# Altium schematic symbol library SCH_IntegratedCircuit.SchLib: 10 symbols
Pins are listed as number, name and electrical type; pins without a type are passive.

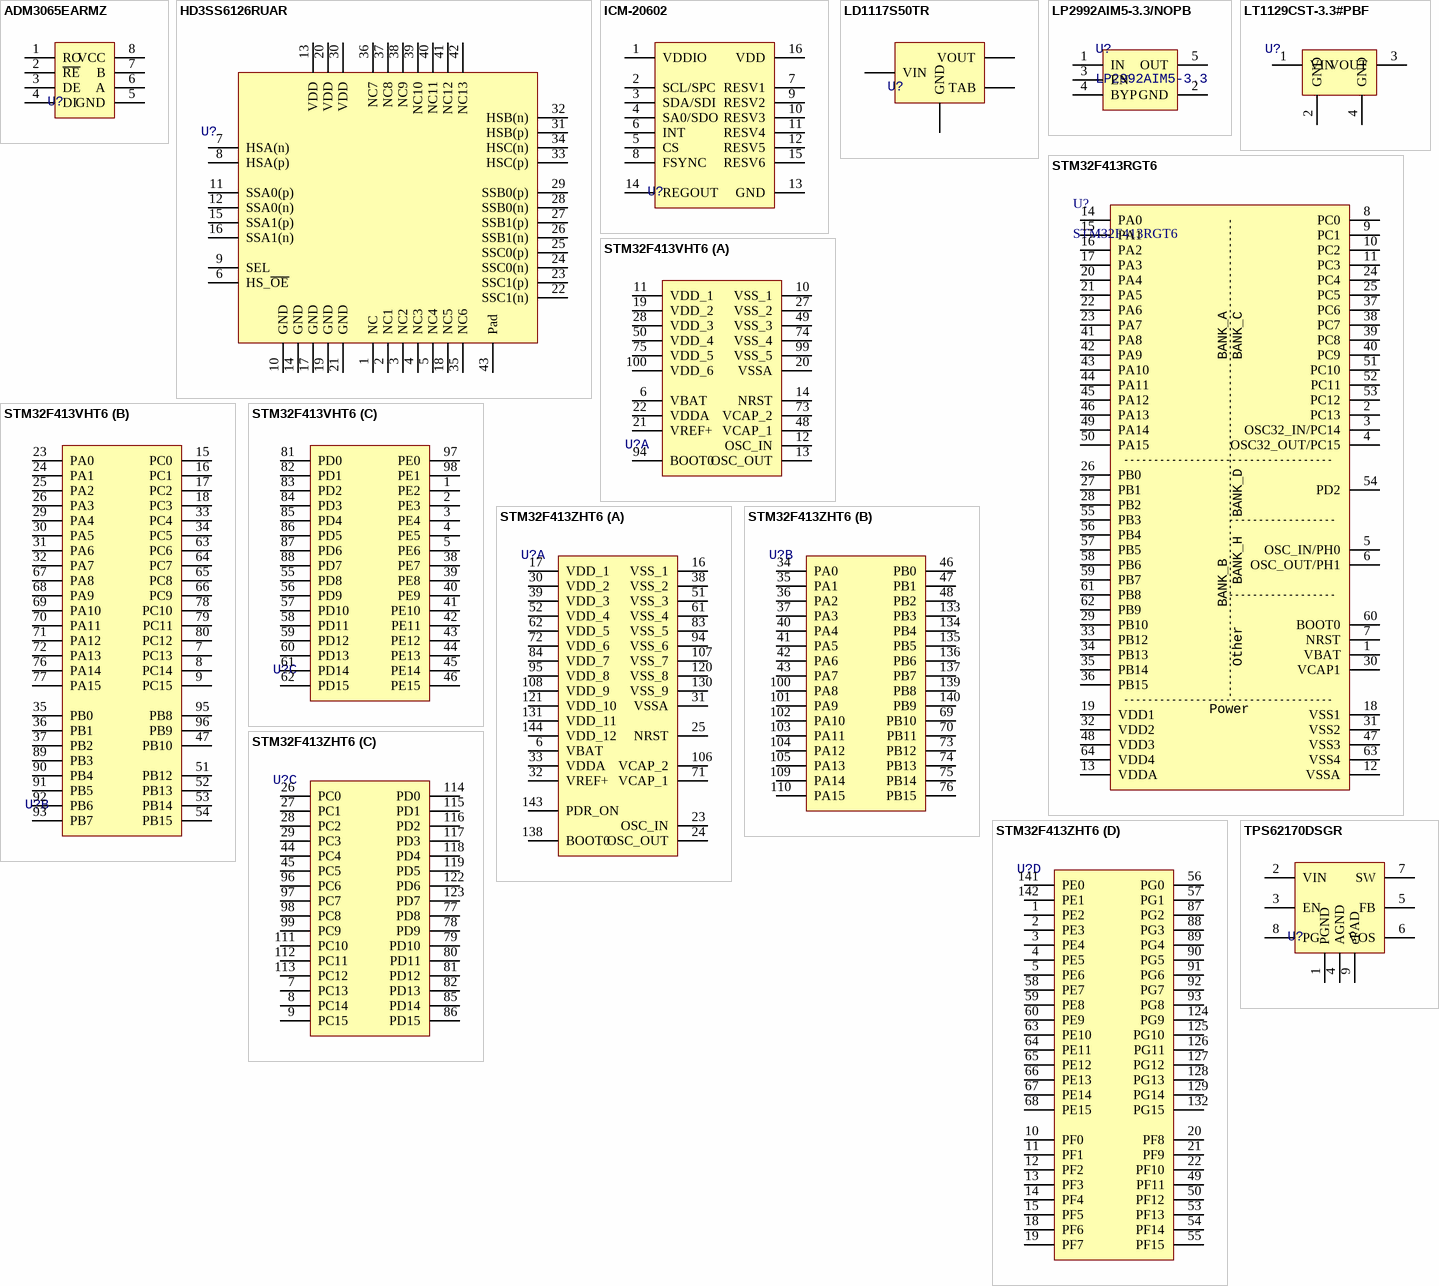
[diagram p0: symbols ADM3065EARMZ to TPS62170DSGR]

## ADM3065EARMZ
designator U?, comment ADM3065E  (value not drawn)
IC TXRX 1/1 RS485 50MBPS 8MSOP; Manufacturer: Analog Devices Inc.; Manufacturer Part Number: ADM3065EARMZ; 梱包形態: チューブ; 部品状況: 有効; タイプ: トランシーバ; デュプレックス: ハーフ; 電圧 - 供給: 3 V～5.5 V; 動作温度: -40°C～85°C; 実装タイプ: 面実装; パッケージ/ケース: 8-TSSOP、8-MSOP（0.118インチ、3.00mm幅）; サプライヤデバイスパッケージ: 8-MSOP; Supplier 1: Digi-Key; RoHS: RoHS Compliant; Category: 集積回路（IC）; Stock 1: 62; Pricing 1: 1=422, 50=358.32, 100=310.54, 500=264.36, 1000=222.956, 2500=211.808 (JPY); プロトコル: RS485; ドライバ/レシーバ数: 1/1; データレート: 50Mbps; ComponentLink1URL: http://www.analog.com/media/en/technical-documentation/data-sheets/ADM3065E.pdf; ComponentLink1Description: http://www.analog.com/media/en/technical-documentation/data-sheets/ADM3065E.pdf; Supplier Part Number 1: ADM3065EARMZ-ND
footprint MSOP_P0.65_8
pins: 1 RO, 2 ~{RE}, 3 DE, 4 DI, 5 GND, 6 A, 7 B, 8 VCC

## HD3SS6126RUAR
designator U?  (value not drawn)
IC MUX 2:1 8 OHM 42WQFN; Manufacturer 1: Texas Instruments; Manufacturer Part Number 1: HD3SS6126RUAR; Operating Supply Current: 2.4mA; Operating Supply Voltage: 3.3V; Max Supply Voltage: 3.6V; Min Supply Voltage: 3V; Logic Function: Demultiplexer,Multiplexer; On-State Resistance: 8R; Turn-On Delay Time: 250ns; Bandwidth: 10GHz; Data Rate: 10Gbps; Number of Ports: 3; Supply Type: Single; USB Standard: USB 2.0; Supplier 1: Digi-Key; Supplier Part Number 1: 296-37215-6-ND; Description 1: IC MUX 2:1 8 OHM 42WQFN; Stock 1: 17631; Pricing 1: 1=3.19, 10=2.868, 100=2.3499, 500=2.00046, 1000=1.68714 (USD); Mount: Surface Mount; Number of Pins: 42; Weight: 0.001933oz; Min Operating Temperature: 0°C; Max Operating Temperature: 70°C; Package Quantity: 3000; Packaging: Tape and Reel; Turn-Off Delay Time: 250ns; Number of Channels: 3; Radiation Hardening: No; REACH SVHC: No SVHC; Lead Free: Lead Free
pins: 1 NC, 2 NC1, 3 NC2, 4 NC3, 5 NC4, 6 HS_~{OE}, 7 HSA(n), 8 HSA(p), 9 SEL, 10 GND, 11 SSA0(p), 12 SSA0(n), 13 VDD, 14 GND, 15 SSA1(p), 16 SSA1(n), 17 GND, 18 NC5, 19 GND, 20 VDD, 21 GND, 22 SSC1(n), 23 SSC1(p), 24 SSC0(n), 25 SSC0(p), 26 SSB1(n), 27 SSB1(p), 28 SSB0(n), 29 SSB0(p), 30 VDD, 31 HSB(p), 32 HSB(n), 33 HSC(p), 34 HSC(n), 35 NC6, 36 NC7, 37 NC8, 38 NC9, 39 NC10, 40 NC11, 41 NC12, 42 NC13, 43 Pad

## ICM-20602
designator U?  (value not drawn)
IMU ACCEL/GYRO/TEMP I2C/SPI LGA; Manufacturer: TDK InvenSense; 部品状況: 有効; センサタイプ: 加加速度計、ジャイロスコープ、温度、6軸; 出力タイプ: I²C、SPI; 動作温度: -40°C～85°C（TA）; Supplier 1: Digi-Key; Manufacturer Part Number: ICM-20602; RoHS: RoHS Compliant; Category: センサ、トランスデューサ; Stock 1: 4770; Pricing 1: 1=688, 5=607.8, 10=536.8, 25=435.52, 50=384.9, 100=374.77, 500=313.99, 1000=293.731 (JPY); ComponentLink1URL: https://www.invensense.com/wp-content/uploads/2015/12/ICM-20602-Product-Brief-v1.0.pdf; ComponentLink1Description: https://www.invensense.com/wp-content/uploads/2015/12/ICM-20602-Product-Brief-v1.0.pdf; Supplier Part Number 1: 1428-1060-1-ND
footprint LGA_P0.5_16
pins: 1 VDDIO, 2 SCL/SPC, 3 SDA/SDI, 4 SA0/SDO, 5 CS, 6 INT, 7 RESV1, 8 FSYNC, 9 RESV2, 10 RESV3, 11 RESV4, 12 RESV5, 13 GND, 14 REGOUT, 15 RESV6, 16 VDD

## LD1117S50TR
designator U?  (value not drawn)
IC REG LINEAR 5V 800MA SOT223; Manufacturer: STMicroelectronics; 梱包形態: カット テープ（CT）; 部品状況: 有効; 出力構成: ポジティブ; 出力タイプ: 固定; 電圧 - 入力（最大）: 15V; 電圧ドロップアウト（最大）: 1.2V @ 800mA; PSRR: 75dB（120Hz）; 保護機能: 過電流、過温度; 動作温度: 0°C～125°C; 実装タイプ: 面実装; パッケージ/ケース: TO-261-4、TO-261AA; サプライヤデバイスパッケージ: SOT-223; Supplier 1: Digi-Key; Manufacturer Part Number: LD1117S50TR; RoHS: RoHS Compliant; Category: 集積回路（IC）; Stock 1: 174; Pricing 1: 1=61, 10=49.5, 100=33.73, 500=25.29, 1000=18.968 (JPY); 電圧 - 出力（最小/固定）: 5V; 電圧 - 出力（最大）: -; 電流 - 出力: 800mA; 制御機能: -; ComponentLink1URL: http://www.st.com/content/ccc/resource/technical/document/datasheet/99/3b/7d/91/91/51/4b/be/CD00000544.pdf/files/CD00000544.pdf/jcr:content/translations/en.CD00000544.pdf; ComponentLink1Description: http://www.st.com/content/ccc/resource/technical/document/datasheet/99/3b/7d/91/91/51/4b/be/CD00000544.pdf/files/CD00000544.pdf/jcr:content/translations/en.CD00000544.pdf; Supplier Part Number 1: 497-6447-1-ND
footprint SOT223-3
pins: 1 GND, 2 VOUT, 3 VIN, 4 TAB

## LP2992AIM5-3.3/NOPB
designator U?, comment LP2992AIM5-3.3
TEXAS INSTRUMENTS   LP2992AIM5-3.3/NOPB   IC, V REG, LINEAR, 3.3V, SMD, FULL REEL; Number of Outputs: 1; Min Input Voltage: 2.2V; Output Current: 250mA; Max Input Voltage: 16V; Dropout Voltage: 450mV; Min Supply Voltage: 4.3V; Polarity: Positive; Quiescent Current: 65uA; Accuracy: 3.5%; Current Rating: 250A; Supplier 1: Digi-Key; Manufacturer: Texas Instruments; Manufacturer Part Number: LP2992AIM5-3.3/NOPB; Stock 1: 62607; Pricing 1: 1=1.14, 10=1.015, 100=0.7912, 500=0.65364 (USD); Mount: Surface Mount; Case/Package: SOT-23; Number of Pins: 5; Contact Plating: Tin; Min Operating Temperature: -40°C; Max Operating Temperature: 125°C; Output Voltage: 3.3V; Packaging: Tape and Reel; Nominal Output Voltage: 3.3V; Max Output Current: 250mA; Max Supply Voltage: 16V; Termination: SMD/SMT; Output Voltage Accuracy: 3.5%; Package Quantity: 1000; Max Output Voltage: 3.3V; Length: 2.92mm; Height: 1.02mm; Width: 1.6mm; Radiation Hardening: No; REACH SVHC: No SVHC; Lead Free: Lead Free; ComponentLink1URL: https://datasheet.ciiva.com/46383/1887480-46383383.pdf; ComponentLink1Description: https://datasheet.ciiva.com/46383/1887480-46383383.pdf; ComponentLink2URL: https://datasheet.ciiva.com/25626/0900766b810fa74b-25626761.pdf; ComponentLink2Description: https://datasheet.ciiva.com/25626/0900766b810fa74b-25626761.pdf; ComponentLink3URL: https://datasheet.ciiva.com/6596/lp2992-6596796.pdf; ComponentLink3Description: https://datasheet.ciiva.com/6596/lp2992-6596796.pdf; ComponentLink4URL: https://datasheet.ciiva.com/6596/lp2992-6596798.pdf; ComponentLink4Description: https://datasheet.ciiva.com/6596/lp2992-6596798.pdf; ComponentLink5URL: https://datasheet.ciiva.com/3223/lp2992-3223902.pdf; ComponentLink5Description: https://datasheet.ciiva.com/3223/lp2992-3223902.pdf; ComponentLink6URL: https://datasheet.ciiva.com/14279/lp2992-14279583.pdf; ComponentLink6Description: https://datasheet.ciiva.com/14279/lp2992-14279583.pdf; ComponentLink7URL: https://datasheet.ciiva.com/25980/lp2992-25980087.pdf; ComponentLink7Description: https://datasheet.ciiva.com/25980/lp2992-25980087.pdf; ComponentLink8URL: https://datasheet.ciiva.com/15111/getdatasheetpartid-55165-15111194.pdf; ComponentLink8Description: https://datasheet.ciiva.com/15111/getdatasheetpartid-55165-15111194.pdf; ComponentLink9URL: https://datasheet.ciiva.com/27055/1995450-27055931.pdf; ComponentLink9Description: https://datasheet.ciiva.com/27055/1995450-27055931.pdf; Supplier Part Number 1: LP2992AIM5-3.3/NOPBDKR-ND
footprint SOP5 (TSOP, 5-Leads, Body 2.90x1.60mm, Pitch 0.95mm, IPC Medium Density)
pins: 1 IN, 2 GND, 3 EN, 4 BYP, 5 OUT

## LT1129CST-3.3#PBF
designator U?  (value not drawn)
IC REG LDO 3.3V 0.7A SOT223; Manufacturer: Analog Devices / Linear Technology; Output Current: 700mA; Dropout Voltage: 450mV; Number of Outputs: 1; Max Input Voltage: 30V; Min Input Voltage: 4.15V; Polarity: Positive; Quiescent Current: 50uA; Power Supply Rejection Ratio (PSRR): 64dB; Supplier 1: Digi-Key; Manufacturer Part Number: LT1129CST-3.3#PBF; Stock 1: 1447; Pricing 1: 1=4.61, 25=3.0632, 100=2.397 (USD); Case/Package: SOT-223; Number of Pins: 3; Min Operating Temperature: 0°C; Max Operating Temperature: 125°C; Package Quantity: 78; Packaging: Rail/Tube; Max Output Current: 700mA; Nominal Output Voltage: 3.3V; Output Voltage: 3.3V; Number of Regulators: 1; Operating Supply Current: 50uA; Length: 6.71mm; Height: 1.7mm; Width: 3.71mm; Radiation Hardening: No; REACH SVHC: No SVHC; Lead Free: Exempt; ComponentLink1URL: https://datasheet.ciiva.com/14150/telt1129-e-14150177.pdf; ComponentLink1Description: https://datasheet.ciiva.com/14150/telt1129-e-14150177.pdf; ComponentLink2URL: https://datasheet.ciiva.com/2041/2235-2041587.pdf; ComponentLink2Description: https://datasheet.ciiva.com/2041/2235-2041587.pdf; ComponentLink3URL: https://datasheet.ciiva.com/5698/1576439-5698187.pdf; ComponentLink3Description: https://datasheet.ciiva.com/5698/1576439-5698187.pdf; ComponentLink4URL: https://datasheet.ciiva.com/8041/1576439-8041676.pdf; ComponentLink4Description: https://datasheet.ciiva.com/8041/1576439-8041676.pdf; ComponentLink5URL: https://datasheet.ciiva.com/15201/getdatasheetpartid-134661-15201964.pdf; ComponentLink5Description: https://datasheet.ciiva.com/15201/getdatasheetpartid-134661-15201964.pdf; ComponentLink6URL: https://datasheet.ciiva.com/19473/1731243-19473884.pdf; ComponentLink6Description: https://datasheet.ciiva.com/19473/1731243-19473884.pdf; Supplier Part Number 1: LT1129CST-3.3#PBF-ND
footprint SOT223-3
pins: 1 VIN, 2 GND, 3 VOUT, 4 GND

## STM32F413RGT6
designator U?
MCU; Manufacturer: STMicroelectronics; 梱包形態: トレイ; 部品状況: 有効; コアプロセッサ: ARM® Cortex®-M4; コアサイズ: 32ビット; 速度: 100MHz; コネクティビティ: CAN、I²C、IrDA、LIN、MMC/SDIO、QSPI、SAI、SPI、UART/USART、USB OTG; 周辺機器: 電圧低下検出/リセット、DMA、I²S、LCD、POR、PWM、WDT; プログラムメモリサイズ: 1MB（1M x 8）; プログラムメモリタイプ: フラッシュ; RAMサイズ: 320K x 8; 電圧 - 電源（Vcc/Vdd）: 1.7 V～3.6 V; データコンバータ: A/D 16x12b、D/A 2x12b; オシレータタイプ: 内蔵; 動作温度: -40°C～85°C（TA）; パッケージ/ケース: 64-LQFP; サプライヤデバイスパッケージ: 64-LQFP（10x10）; Supplier 1: Digi-Key; Manufacturer Part Number: STM32F413RGT6; RoHS: RoHS Compliant; Category: 集積回路（IC）; Stock 1: 0; Pricing 1: 1=1165, 10=1052.2, 100=871.14, 500=758.572, 1000=660.692 (JPY); EEPROMサイズ: -; ComponentLink1URL: http://www.st.com/content/ccc/resource/technical/document/datasheet/group3/f6/1d/4a/d9/f9/96/43/2a/DM00282249/files/DM00282249.pdf/jcr:content/translations/en.DM00282249.pdf; ComponentLink1Description: http://www.st.com/content/ccc/resource/technical/document/datasheet/group3/f6/1d/4a/d9/f9/96/43/2a/DM00282249/files/DM00282249.pdf/jcr:content/translations/en.DM00282249.pdf; Supplier Part Number 1: 497-17011-ND
footprint LQFP_P0.5_64
pins: 1 VBAT, 2 PC13, 3 OSC32_IN/PC14, 4 OSC32_OUT/PC15, 5 OSC_IN/PH0, 6 OSC_OUT/PH1, 7 NRST, 8 PC0, 9 PC1, 10 PC2, 11 PC3, 12 VSSA, 13 VDDA, 14 PA0, 15 PA1, 16 PA2, 17 PA3, 18 VSS1, 19 VDD1, 20 PA4, 21 PA5, 22 PA6, 23 PA7, 24 PC4, 25 PC5, 26 PB0, 27 PB1, 28 PB2, 29 PB10, 30 VCAP1, 31 VSS2, 32 VDD2, 33 PB12, 34 PB13, 35 PB14, 36 PB15, 37 PC6, 38 PC7, 39 PC8, 40 PC9, 41 PA8, 42 PA9, 43 PA10, 44 PA11, 45 PA12, 46 PA13, 47 VSS3, 48 VDD3, 49 PA14, 50 PA15, 51 PC10, 52 PC11, 53 PC12, 54 PD2, 55 PB3, 56 PB4, 57 PB5, 58 PB6, 59 PB7, 60 BOOT0, 61 PB8, 62 PB9, 63 VSS4, 64 VDD4
text: BANK_A; BANK_C; BANK_D; BANK_H; BANK_B; Other; Power

## STM32F413VHT6
designator U?  (value not drawn)
IC MCU 32BIT 1.5MB FLASH 100LQFP; Manufacturer: STMicroelectronics; 梱包形態: トレイ; 部品状況: 有効; コアプロセッサ: ARM® Cortex®-M4; コアサイズ: 32ビット; 速度: 100MHz; コネクティビティ: CAN、EBI/EMI、I²C、IrDA、LIN、MMC/SDIO、QSPI、SAI、SPI、UART/USART、USB OTG; 周辺機器: 電圧低下検出/リセット、DMA、I²S、LCD、POR、PWM、WDT; プログラムメモリサイズ: 1.5MB（1.5M x 8）; プログラムメモリタイプ: フラッシュ; RAMサイズ: 320K x 8; 電圧 - 電源（Vcc/Vdd）: 1.7 V～3.6 V; データコンバータ: A/D 16x12b、D/A 2x12b; オシレータタイプ: 内蔵; 動作温度: -40°C～85°C（TA）; パッケージ/ケース: 100-LQFP; サプライヤデバイスパッケージ: 100-LQFP（14x14）; Supplier 1: Digi-Key; Manufacturer Part Number: STM32F413VHT6; RoHS: RoHS Compliant; Category: 集積回路（IC）; Stock 1: 69; Pricing 1: 1=1397, 10=1261.9, 100=1044.66, 500=909.678, 1000=792.301 (JPY); EEPROMサイズ: -; ComponentLink1URL: http://www.st.com/content/ccc/resource/technical/document/datasheet/group3/f6/1d/4a/d9/f9/96/43/2a/DM00282249/files/DM00282249.pdf/jcr:content/translations/en.DM00282249.pdf; ComponentLink1Description: http://www.st.com/content/ccc/resource/technical/document/datasheet/group3/f6/1d/4a/d9/f9/96/43/2a/DM00282249/files/DM00282249.pdf/jcr:content/translations/en.DM00282249.pdf; Supplier Part Number 1: 497-17010-ND
footprint LQFP_P0.5_100
part A pins: 6 VBAT, 10 VSS_1, 11 VDD_1, 12 OSC_IN, 13 OSC_OUT, 14 NRST, 19 VDD_2, 20 VSSA, 21 VREF+, 22 VDDA, 27 VSS_2, 28 VDD_3, 48 VCAP_1, 49 VSS_3, 50 VDD_4, 73 VCAP_2, 74 VSS_4, 75 VDD_5, 94 BOOT0, 99 VSS_5, 100 VDD_6
part B pins: 7 PC13, 8 PC14, 9 PC15, 15 PC0, 16 PC1, 17 PC2, 18 PC3, 23 PA0, 24 PA1, 25 PA2, 26 PA3, 29 PA4, 30 PA5, 31 PA6, 32 PA7, 33 PC4, 34 PC5, 35 PB0, 36 PB1, 37 PB2, 47 PB10, 51 PB12, 52 PB13, 53 PB14, 54 PB15, 63 PC6, 64 PC7, 65 PC8, 66 PC9, 67 PA8, 68 PA9, 69 PA10, 70 PA11, 71 PA12, 72 PA13, 76 PA14, 77 PA15, 78 PC10, 79 PC11, 80 PC12, 89 PB3, 90 PB4, 91 PB5, 92 PB6, 93 PB7, 95 PB8, 96 PB9
part C pins: 1 PE2, 2 PE3, 3 PE4, 4 PE5, 5 PE6, 38 PE7, 39 PE8, 40 PE9, 41 PE10, 42 PE11, 43 PE12, 44 PE13, 45 PE14, 46 PE15, 55 PD8, 56 PD9, 57 PD10, 58 PD11, 59 PD12, 60 PD13, 61 PD14, 62 PD15, 81 PD0, 82 PD1, 83 PD2, 84 PD3, 85 PD4, 86 PD5, 87 PD6, 88 PD7, 97 PE0, 98 PE1

## STM32F413ZHT6
designator U?  (value not drawn)
IC MCU 32BIT 1.5MB FLASH 144LQFP; Manufacturer: STMicroelectronics; 梱包形態: トレイ; 部品状況: 有効; コアプロセッサ: ARM® Cortex®-M4; コアサイズ: 32ビット; 速度: 100MHz; コネクティビティ: CAN、EBI/EMI、I²C、IrDA、LIN、MMC/SDIO、QSPI、SAI、SPI、UART/USART、USB OTG; 周辺機器: 電圧低下検出/リセット、DMA、I²S、LCD、POR、PWM、WDT; プログラムメモリサイズ: 1.5MB（1.5M x 8）; プログラムメモリタイプ: フラッシュ; RAMサイズ: 320K x 8; 電圧 - 電源（Vcc/Vdd）: 1.7 V～3.6 V; データコンバータ: A/D 16x12b、D/A 2x12b; オシレータタイプ: 内蔵; 動作温度: -40°C～85°C（TA）; パッケージ/ケース: 144-LQFP; サプライヤデバイスパッケージ: 144-LQFP（20x20）; Supplier 1: Digi-Key; Manufacturer Part Number: STM32F413ZHT6; RoHS: RoHS Compliant; Category: 集積回路（IC）; Stock 1: 301; Pricing 1: 1=1327, 10=122, 100=1030.31, 500=916.532, 1000=840.681 (JPY); EEPROMサイズ: -; ComponentLink1URL: http://www.st.com/content/ccc/resource/technical/document/datasheet/group3/f6/1d/4a/d9/f9/96/43/2a/DM00282249/files/DM00282249.pdf/jcr:content/translations/en.DM00282249.pdf; ComponentLink1Description: http://www.st.com/content/ccc/resource/technical/document/datasheet/group3/f6/1d/4a/d9/f9/96/43/2a/DM00282249/files/DM00282249.pdf/jcr:content/translations/en.DM00282249.pdf; Supplier Part Number 1: 497-17255-ND
footprint LQFP_P0.5_144
part A pins: 6 VBAT, 16 VSS_1, 17 VDD_1, 23 OSC_IN, 24 OSC_OUT, 25 NRST, 30 VDD_2, 31 VSSA, 32 VREF+, 33 VDDA, 38 VSS_2, 39 VDD_3, 51 VSS_3, 52 VDD_4, 61 VSS_4, 62 VDD_5, 71 VCAP_1, 72 VDD_6, 83 VSS_5, 84 VDD_7, 94 VSS_6, 95 VDD_8, 106 VCAP_2, 107 VSS_7, 108 VDD_9, 120 VSS_8, 121 VDD_10, 130 VSS_9, 131 VDD_11, 138 BOOT0, 143 PDR_ON, 144 VDD_12
part B pins: 34 PA0, 35 PA1, 36 PA2, 37 PA3, 40 PA4, 41 PA5, 42 PA6, 43 PA7, 46 PB0, 47 PB1, 48 PB2, 69 PB10, 70 PB11, 73 PB12, 74 PB13, 75 PB14, 76 PB15, 100 PA8, 101 PA9, 102 PA10, 103 PA11, 104 PA12, 105 PA13, 109 PA14, 110 PA15, 133 PB3, 134 PB4, 135 PB5, 136 PB6, 137 PB7, 139 PB8, 140 PB9
part C pins: 7 PC13, 8 PC14, 9 PC15, 26 PC0, 27 PC1, 28 PC2, 29 PC3, 44 PC4, 45 PC5, 77 PD8, 78 PD9, 79 PD10, 80 PD11, 81 PD12, 82 PD13, 85 PD14, 86 PD15, 96 PC6, 97 PC7, 98 PC8, 99 PC9, 111 PC10, 112 PC11, 113 PC12, 114 PD0, 115 PD1, 116 PD2, 117 PD3, 118 PD4, 119 PD5, 122 PD6, 123 PD7
part D pins: 1 PE2, 2 PE3, 3 PE4, 4 PE5, 5 PE6, 10 PF0, 11 PF1, 12 PF2, 13 PF3, 14 PF4, 15 PF5, 18 PF6, 19 PF7, 20 PF8, 21 PF9, 22 PF10, 49 PF11, 50 PF12, 53 PF13, 54 PF14, 55 PF15, 56 PG0, 57 PG1, 58 PE7, 59 PE8, 60 PE9, 63 PE10, 64 PE11, 65 PE12, 66 PE13, 67 PE14, 68 PE15, 87 PG2, 88 PG3, 89 PG4, 90 PG5, 91 PG6, 92 PG7, 93 PG8, 124 PG9, 125 PG10, 126 PG11, 127 PG12, 128 PG13, 129 PG14, 132 PG15, 141 PE0, 142 PE1

## TPS62170DSGR
designator U?  (value not drawn)
IC REG BUCK ADJ 0.5A SYNC 8WSON; Manufacturer: Texas Instruments; 梱包形態: カット テープ（CT）; 部品状況: 有効; 機能: ステップダウン; 出力構成: ポジティブ; トポロジ: 降圧; 出力タイプ: 可変; 出力数: 1; 電圧 - 入力（最小）: 3V; 電圧 - 入力（最大）: 17V; 電圧 - 出力（最小/固定）: 0.9V; 電圧 - 出力（最大）: 6 V; 電流 - 出力: 500mA; 周波数 - スイッチング: 2.25MHz; 同期整流器: あり; 動作温度: -40°C～85°C（TA）; 実装タイプ: 面実装; パッケージ/ケース: 8-WFDFN露出パッド; サプライヤデバイスパッケージ: 8-WSON（2x2）; Supplier 1: Digi-Key; Manufacturer Part Number: TPS62170DSGR; RoHS: RoHS Compliant; Category: 集積回路（IC）; Stock 1: 20992; Pricing 1: 1=181, 10=161.3, 100=125.74, 500=103.88, 1000=82.01 (JPY); ComponentLink1URL: http://www.ti.com/lit/ds/symlink/tps62170.pdf; ComponentLink1Description: http://www.ti.com/lit/ds/symlink/tps62170.pdf; Supplier Part Number 1: 296-29865-1-ND
footprint WSON_P0.5_8 (200x200x80)
pins: 1 PGND, 2 VIN, 3 EN, 4 AGND, 5 FB, 6 VOS, 7 SW, 8 PG, 9 ePAD